# EAGLE library part ATMEGA16U2-MU (library Microcontroller)
IC MCU 8BIT 16KB FLASH 32VQFN Manufacturer's datasheet <http://ww1.microchip.com/downloads/en/DeviceDoc/doc7799.pdf>
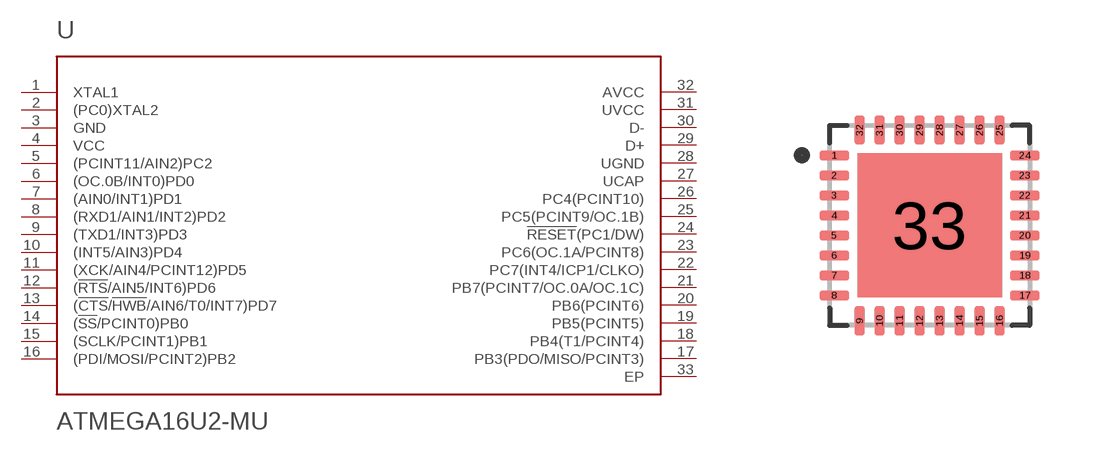
[diagram p8: symbol with the pads of 32-VQFN; footprint 32-VQFN]

Designator prefix U

## ATMEGA16U2-MU (CREATED_BY: PCBLayout.com; DIGIKEY_PART_NUMBER: ATMEGA16U2-MU-ND; MANUFACTURER: Microchip Technology; MPN: ATMEGA16U2-MU; PACKAGE: 32-VQFN)  [32-VQFN]
1  XTAL1  in
2  (PC0)XTAL2
3  GND  pwr
4  VCC  pwr
5  (PCINT11/AIN2)PC2
6  (OC.0B/INT0)PD0
7  (AIN0/INT1)PD1
8  (RXD1/AIN1/INT2)PD2
9  (TXD1/INT3)PD3
10  (INT5/AIN3)PD4
11  (XCK/AIN4/PCINT12)PD5
12  (!RTS!/AIN5/INT6)PD6
13  (!CTS!/!HWB!/AIN6/T0/INT7)PD7
14  (!SS!/PCINT0)PB0
15  (SCLK/PCINT1)PB1
16  (PDI/MOSI/PCINT2)PB2
17  PB3(PDO/MISO/PCINT3)
18  PB4(T1/PCINT4)
19  PB5(PCINT5)
20  PB6(PCINT6)
21  PB7(PCINT7/OC.0A/OC.1C)
22  PC7(INT4/ICP1/CLKO)
23  PC6(OC.1A/PCINT8)
24  !RESET!(PC1/DW)
25  PC5(PCINT9/OC.1B)
26  PC4(PCINT10)
27  UCAP  pwr
28  UGND  pwr
29  D+  in
30  D-  in
31  UVCC  pwr
32  AVCC  pwr
33  EP  pwr

## Footprint 32-VQFN (pad centres in mm)
Quad Flat No-Lead (QFN with Tab), 0.50 mm pitch; square, 8 pin X 8 pin, 5.00 mm L X 5.00 mm W X 1.00 mm H body PCB Libraries Packages
smd 0.74 x 0.26: 1 -2.385,1.75; 2 -2.385,1.25; 3 -2.385,0.75; 4 -2.385,0.25; 5 -2.385,-0.25; 6 -2.385,-0.75; 7 -2.385,-1.25; 8 -2.385,-1.75; 17 2.385,-1.75; 18 2.385,-1.25; 19 2.385,-0.75; 20 2.385,-0.25; 21 2.385,0.25; 22 2.385,0.75; 23 2.385,1.25; 24 2.385,1.75
smd 0.26 x 0.74: 9 -1.75,-2.385; 10 -1.25,-2.385; 11 -0.75,-2.385; 12 -0.25,-2.385; 13 0.25,-2.385; 14 0.75,-2.385; 15 1.25,-2.385; 16 1.75,-2.385; 25 1.75,2.385; 26 1.25,2.385; 27 0.75,2.385; 28 0.25,2.385; 29 -0.25,2.385; 30 -0.75,2.385; 31 -1.25,2.385; 32 -1.75,2.385
smd 3.6 x 3.6: 33 0,0